# EAGLE library part MOLEX-22-02-3083 (library HermitRetro)
Molex 22-02-3083 Ribbon Connector
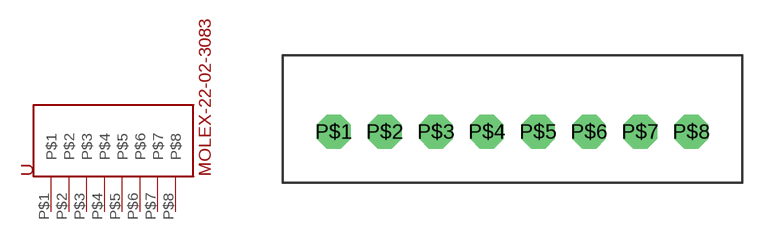
[diagram p9: symbol with the pads of MOLEX-22-02-3083; footprint MOLEX-22-02-3083]

Designator prefix -

## MOLEX-22-02-3083 (UNIT_PRICE: 0.87; VENDOR_ID: RS Components; VENDOR_SKU: 718-8740)  [MOLEX-22-02-3083]
P$1  P$1
P$2  P$2
P$3  P$3
P$4  P$4
P$5  P$5
P$6  P$6
P$7  P$7
P$8  P$8

## Footprint MOLEX-22-02-3083 (pad centres in mm)
Molex 22-02-3053 Ribbon Connector
drill 1 pad 1.676 octagon: P$1 2.54,2.54; P$2 5.08,2.54; P$3 7.62,2.54; P$4 10.16,2.54; P$5 12.7,2.54; P$6 15.24,2.54; P$7 17.78,2.54; P$8 20.32,2.54